# EAGLE library part APA102C (library OpenSourceArt_Eagle_Library)
APA102C 5050 LED http://www.digikey.com/product-detail/en/1655/1528-1104-ND/5154679
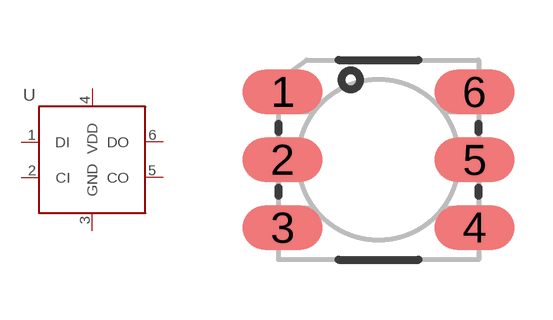
[diagram p1: symbol with the pads of LED5050-6; footprint LED5050-6]

Designator prefix -

## APA102C  [LED5050-6]
1  DI  out
2  CI  out
3  GND  pwr
4  VDD  pwr
5  CO  in
6  DO  in

## Footprint LED5050-6 (pad centres in mm)
smd 2 x 1.1: 1 -2.4,1.7; 2 -2.4,0; 3 -2.4,-1.7; 4 2.4,-1.7; 5 2.4,0; 6 2.4,1.7